# EAGLE library part DUAL_N-MOSFET (library transistors)
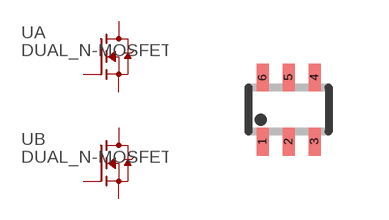
[diagram p1: symbol with the pads of SOT363_INFINEON; footprint SOT363_INFINEON]

Designator prefix -; gates A=N-MOSFET B=N-MOSFET

## DUAL_N-MOSFET  [SOT363_INFINEON]
1  A:S  pas
2  A:G  pas
3  B:D  pas
4  B:S  pas
5  B:G  pas
6  A:D  pas

## Footprint SOT363_INFINEON (pad centres in mm)
Small Outline Transistor; 6 leads Reflow soldering INFINEON, www.infineon.com/cmc_upload/0/000/010/257/eh_db_5b.pdf
smd 0.3 x 0.7: 1 -0.65,-0.8; 2 0,-0.8; 3 0.65,-0.8; 4 0.65,0.8; 5 0,0.8; 6 -0.65,0.8